# EAGLE library part SN74LVC2G125 (library my)
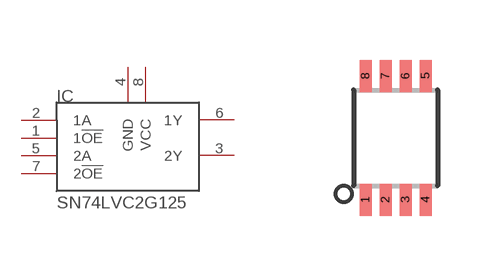
[diagram p7: symbol with the pads of VSSOP8; footprint VSSOP8]

Designator prefix IC

## SN74LVC2G125DCU  [VSSOP8]
1  1!OE  in
2  1A  in
3  2Y  out
4  GND  pwr
5  2A  in
6  1Y  out
7  2!OE  in
8  VCC  pwr

## Footprint VSSOP8 (pad centres in mm)
smd 0.3 x 0.8: 1 -0.75,-1.55; 2 -0.25,-1.55; 3 0.25,-1.55; 4 0.75,-1.55; 5 0.75,1.55; 6 0.25,1.55; 7 -0.25,1.55; 8 -0.75,1.55